# Altium footprint library transistor-small-signal.PCBLIB: 107 footprints (part 2 of 7)
Each footprint in its own frame and in the unit in brackets; x right, y up, seen from the top. Pads: shape width x height; smd on the part's side, far side on the other; paste and mask are expansions set on the pad; w line width, h text height; cw(c..) or ccw(c..) is an arc to the next point about the centre after c.
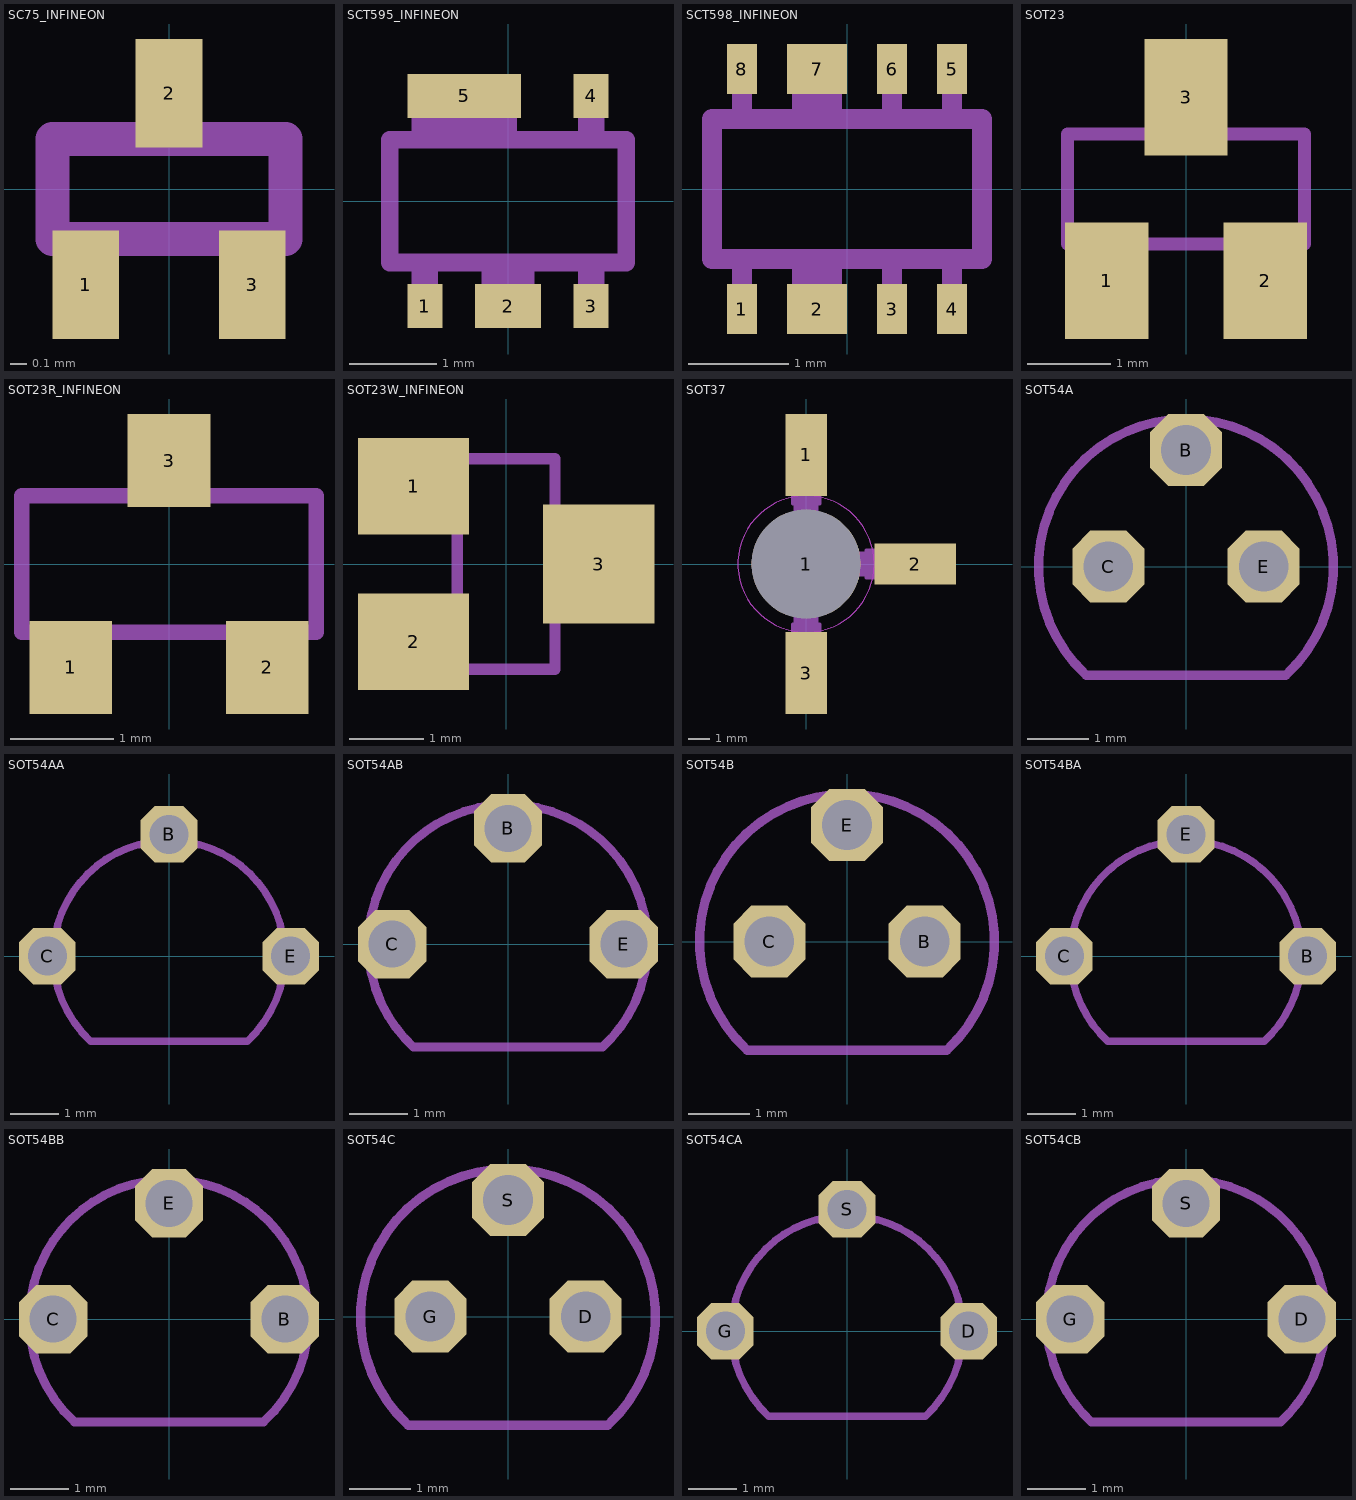
[diagram p1: the footprints below, top view; thin cyan lines are the x and y axes]

## SC75_INFINEON [mm]
pads (3):
  rect 0.4x0.65 smd: 1(-0.5,-0.575) 2(0,0.575) 3(0.5,-0.575)
Mechanical 2:
  lines w0.203: -0.7,-0.15 -0.7,0.3 -0.45,0.3 ; 0.45,0.3 0.7,0.3 0.7,-0.15
Mechanical 18:
  rectangle: -0.6,-0.8 -0.4,-0.35
  rectangle: 0.4,-0.8 0.6,-0.35
  rectangle: -0.1,0.35 0.1,0.8
  lines w0.203: -0.7,-0.15 -0.7,-0.3 0.7,-0.3 0.7,-0.15 ; -0.45,0.3 0.45,0.3

## SCT595_INFINEON [mil]
pads (5):
  rect 15.75x19.69 smd: 1(-37.4,-47.24) 3(37.4,-47.24) 4(37.4,47.24)
  rect 29.53x19.69 smd: 2(0,-47.24)
  rect 51.18x19.69 smd: 5(-19.69,47.24)
Mechanical 2:
  lines w8: -53.15,-27.56 53.15,-27.56 53.15,27.56 -53.15,27.56 -53.15,-27.56
Mechanical 18:
  rectangle: -11.81,-51.18 11.81,-29.53
  rectangle: -43.31,-51.18 -31.5,-29.53
  rectangle: 31.5,-51.18 43.31,-29.53
  rectangle: 31.5,29.53 43.31,51.18
  rectangle: -43.31,29.53 3.94,51.18

## SCT598_INFINEON [mil]
pads (8):
  rect 11.81x19.69 smd: 1(-41.34,-47.24) 3(17.72,-47.24) 4(41.34,-47.24) 5(41.34,47.24) 6(17.72,47.24) 8(-41.34,47.24)
  rect 23.62x19.69 smd: 2(-11.81,-47.24) 7(-11.81,47.24)
Mechanical 2:
  lines w8: -53.15,-27.56 53.15,-27.56 53.15,27.56 -53.15,27.56 -53.15,-27.56
Mechanical 18:
  rectangle: -45.28,-51.18 -37.4,-29.53
  rectangle: -21.65,-51.18 -1.97,-29.53
  rectangle: 13.78,-51.18 21.65,-29.53
  rectangle: 37.4,-51.18 45.28,-29.53
  rectangle: 37.4,29.53 45.28,51.18
  rectangle: 13.78,29.53 21.65,51.18
  rectangle: -21.65,29.53 -1.97,51.18
  rectangle: -45.28,29.53 -37.4,51.18

## SOT23 [mm]
pads (3):
  rect 1x1.4 smd: 1(-0.95,-1.1) 2(0.95,-1.1) 3(0,1.1)
Mechanical 18:
  rectangle: -0.229,0.711 0.229,1.295
  rectangle: 0.711,-1.295 1.168,-0.711
  rectangle: -1.168,-1.295 -0.711,-0.711
  lines w0.152: -1.422,-0.66 1.422,-0.66 1.422,0.66 -1.422,0.66 -1.422,-0.66

## SOT23R_INFINEON [mil]
pads (3):
  rect 31.5x35.43 smd: 1(-37.4,-39.37) 2(37.4,-39.37) 3(0,39.37)
Mechanical 18:
  rectangle: -9,28 9,51
  rectangle: 28,-51 46,-28
  rectangle: -46,-51 -28,-28
  lines w6: -56,-26 56,-26 56,26 -56,26 -56,-26

## SOT23W_INFINEON [mil]
pads (3):
  rect 59.06x51.18 smd: 1(-49.21,41.34) 2(-49.21,-41.34)
  rect 59.06x62.99 smd: 3(49.21,0)
Mechanical 18:
  rectangle: 28,-9 51,9
  rectangle: -51,-46 -28,-28
  rectangle: -51,28 -28,46
  lines w6: -26,-56 26,-56 26,56 -26,56 -26,-56

## SOT37 [mil]
pads (4):
  round 200 hole 200: 1(0,0)
  rect 76x150 smd: 1(0,200) 3(0,-200)
  rect 150x76 smd: 2(200,0)
Mechanical 2:
  circle w6: c0,0 r90
  circle w6: c0,60 r20
  rectangle: -20,-110 20,-95
  rectangle: -25,-120 25,-110
  rectangle: 95,-20 110,20
  rectangle: 110,-25 120,25
  rectangle: -25,110 25,120
  rectangle: -20,95 20,110
  lines w6: -25,-120 -25,-110 -20,-110 -20,-88 ; -25,120 -25,110 -20,110 -20,88 ; 20,-88 20,-110 25,-110 25,-120 ; 20,88 20,110 25,110 25,120 ; 87,20 110,20 110,25 120,25 ; 88,-20 110,-20 110,-25 120,-25
Mechanical 10 keep-out:
  circle w0: c0,0 r125
Mechanical 11 keep-out:
  circle w0: c0,0 r125
Mechanical 18:
  rectangle: -25,-135 25,-120
  rectangle: -20,-210 20,-135
  rectangle: 120,-25 135,25
  rectangle: 135,-20 210,20
  rectangle: -20,135 20,255
  rectangle: -25,120 25,135
  lines w6: -25,-120 -25,-135 -20,-135 -20,-209 20,-209 20,-135 25,-135 25,-120 ; -25,120 -25,135 -20,135 -20,256 20,256 20,135 25,135 25,120 ; 120,-25 135,-25 135,-20 209,-20 209,20 135,20 135,25 120,25

## SOT54A [mil]
pads (3):
  oct 46.48x46.48 hole 32: B(0,75) C(-50,0) E(50,0)
Mechanical 2:
  lines w6: -38.15,87 ccw(c0.01,0) -64.21,-70 64.21,-70 ccw(c-0.01,0) 38.15,87
Mechanical 18:
  lines w6: -38.16,87 cw(c0,-0.01) 38.16,87

## SOT54AA [mil]
pads (3):
  oct 46.48x46.48 hole 32: B(0,100) C(-100,0) E(100,0)
Mechanical 2:
  lines w6: -83.68,44.98 cw(c0,-0.01) -43.72,84.34 ; -83.67,-44.98 ccw(c0.01,0.03) -64.21,-70 64.21,-70 ccw(c-0.01,0.03) 83.67,-44.98 ; 43.72,84.34 cw(c0,-0.01) 83.68,44.98
Mechanical 18:
  lines w6: -83.68,-44.98 cw(c0,0) -83.68,44.98 ; -43.72,84.34 cw(c0,0) 43.72,84.34 ; 83.68,-44.98 ccw(c0,0) 83.68,44.98

## SOT54AB [mil]
pads (3):
  oct 46.48x46.48 hole 32: B(0,78.74) C(-78.74,0) E(78.74,0)
Mechanical 2:
  lines w6: -81.25,-49.23 ccw(c-0.02,0.01) -64.22,-70 64.21,-70 ccw(c-0.01,0.02) 81.24,-49.23 ; -81.25,49.23 cw(c-0.01,0.01) -48.24,81.84 ; 48.24,81.84 cw(c0.01,0.01) 81.25,49.23
Mechanical 18:
  lines w6: -81.25,-49.23 cw(c0,0) -81.25,49.23 ; -48.24,81.84 cw(c0,-0.01) 48.24,81.84 ; 81.25,-49.23 ccw(c0,0) 81.25,49.23

## SOT54B [mil]
pads (3):
  oct 46.48x46.48 hole 32: B(50,0) C(-50,0) E(0,75)
Mechanical 2:
  lines w6: -38.15,87 ccw(c0.01,0) -64.21,-70 64.21,-70 ccw(c-0.01,0) 38.15,87
Mechanical 18:
  lines w6: -38.16,87 cw(c0,-0.01) 38.16,87

## SOT54BA [mil]
pads (3):
  oct 46.48x46.48 hole 32: B(100,0) C(-100,0) E(0,100)
Mechanical 2:
  lines w6: -81.25,-49.23 ccw(c-0.02,0.01) -64.22,-70 64.21,-70 ccw(c-0.01,0.02) 81.24,-49.23 ; -81.25,49.23 cw(c-0.01,0.01) -48.24,81.84 ; 48.24,81.84 cw(c0.01,0.01) 81.25,49.23
Mechanical 18:
  lines w6: -81.25,-49.23 cw(c0,0) -81.25,49.23 ; -48.24,81.84 cw(c0,-0.01) 48.24,81.84 ; 81.25,-49.23 ccw(c0,0) 81.25,49.23

## SOT54BB [mil]
pads (3):
  oct 46.48x46.48 hole 32: B(78.74,0) C(-78.74,0) E(0,78.74)
Mechanical 2:
  lines w6: -83.68,44.98 cw(c0,-0.01) -43.72,84.34 ; -83.67,-44.98 ccw(c0.01,0.03) -64.21,-70 64.21,-70 ccw(c-0.01,0.03) 83.67,-44.98 ; 43.72,84.34 cw(c0,-0.01) 83.68,44.98
Mechanical 18:
  lines w6: -83.68,-44.98 cw(c0,0) -83.68,44.98 ; -43.72,84.34 cw(c0,0) 43.72,84.34 ; 83.68,-44.98 ccw(c0,0) 83.68,44.98

## SOT54C [mil]
pads (3):
  oct 46.48x46.48 hole 32: D(50,0) G(-50,0) S(0,75)
Mechanical 2:
  lines w6: -38.15,87 ccw(c0.01,0) -64.21,-70 64.21,-70 ccw(c-0.01,0) 38.15,87
Mechanical 18:
  lines w6: -38.16,87 cw(c0,-0.01) 38.16,87

## SOT54CA [mil]
pads (3):
  oct 46.48x46.48 hole 32: D(100,0) G(-100,0) S(0,100)
Mechanical 2:
  lines w6: -83.68,44.98 cw(c0,-0.01) -43.72,84.34 ; -83.67,-44.98 ccw(c0.01,0.03) -64.21,-70 64.21,-70 ccw(c-0.01,0.03) 83.67,-44.98 ; 43.72,84.34 cw(c0,-0.01) 83.68,44.98
Mechanical 18:
  lines w6: -83.68,-44.98 cw(c0,0) -83.68,44.98 ; -43.72,84.34 cw(c0,0) 43.72,84.34 ; 83.68,-44.98 ccw(c0,0) 83.68,44.98

## SOT54CB [mil]
pads (3):
  oct 46.48x46.48 hole 32: D(78.74,0) G(-78.74,0) S(0,78.74)
Mechanical 2:
  lines w6: -81.25,-49.23 ccw(c-0.02,0.01) -64.22,-70 64.21,-70 ccw(c-0.01,0.02) 81.24,-49.23 ; -81.25,49.23 cw(c-0.01,0.01) -48.24,81.84 ; 48.24,81.84 cw(c0.01,0.01) 81.25,49.23
Mechanical 18:
  lines w6: -81.25,-49.23 cw(c0,0) -81.25,49.23 ; -48.24,81.84 cw(c0,-0.01) 48.24,81.84 ; 81.25,-49.23 ccw(c0,0) 81.25,49.23